# EAGLE library part LT1016* (library linear-technology-2)
Ultra-fast precision COMPARATOR
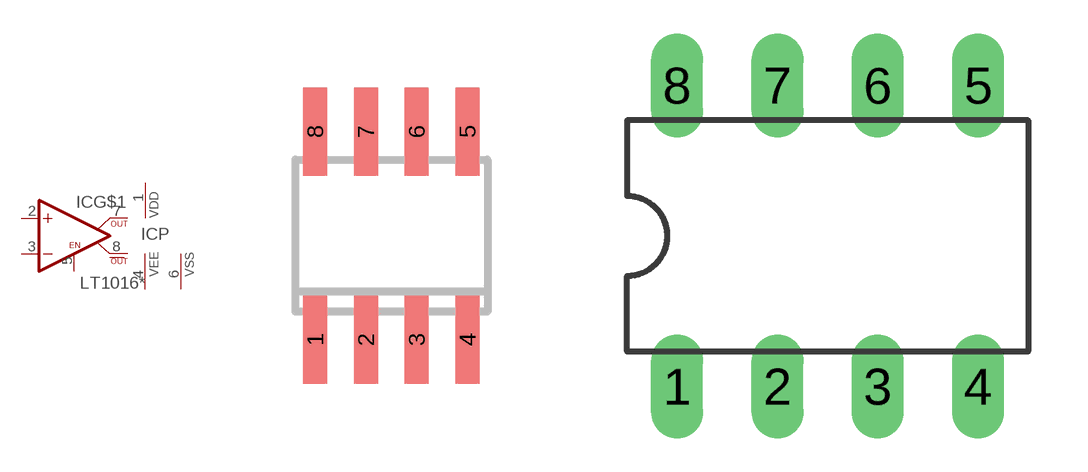
[diagram p1: symbol with the pads of SO08; footprints SO08, DIL08]

Designator prefix IC; gates P=PWRN-D-E-S G$1=LT1016

## LT1016CS8, LT1016IS8  [SO08]
1  P:VDD  pwr
2  G$1:+IN  in
3  G$1:-IN  in
4  P:VEE  pwr
5  G$1:EN  in
6  P:VSS  pwr
7  G$1:OUT  out
8  G$1:/OUT  out

## LT1016CN8, LT1016IN8  [DIL08]
Pads as for SO08

## Footprint SO08 (pad centres in mm)
Small Outline IC
smd 0.6 x 2.2: 1 -1.905,-2.6; 2 -0.635,-2.6; 3 0.635,-2.6; 4 1.905,-2.6; 5 1.905,2.6; 6 0.635,2.6; 7 -0.635,2.6; 8 -1.905,2.6

## Footprint DIL08 (pad centres in mm)
Dual In Line Package
drill 0.813 long: 1 -3.81,-3.81; 2 -1.27,-3.81; 3 1.27,-3.81; 4 3.81,-3.81; 5 3.81,3.81; 6 1.27,3.81; 7 -1.27,3.81; 8 -3.81,3.81